# Altium footprint library PcbLib1.PcbLib: 12 footprints
Each footprint in its own frame and in the unit in brackets; x right, y up, seen from the top. Pads: shape width x height; smd on the part's side, far side on the other; paste and mask are expansions set on the pad; w line width, h text height; cw(c..) or ccw(c..) is an arc to the next point about the centre after c.
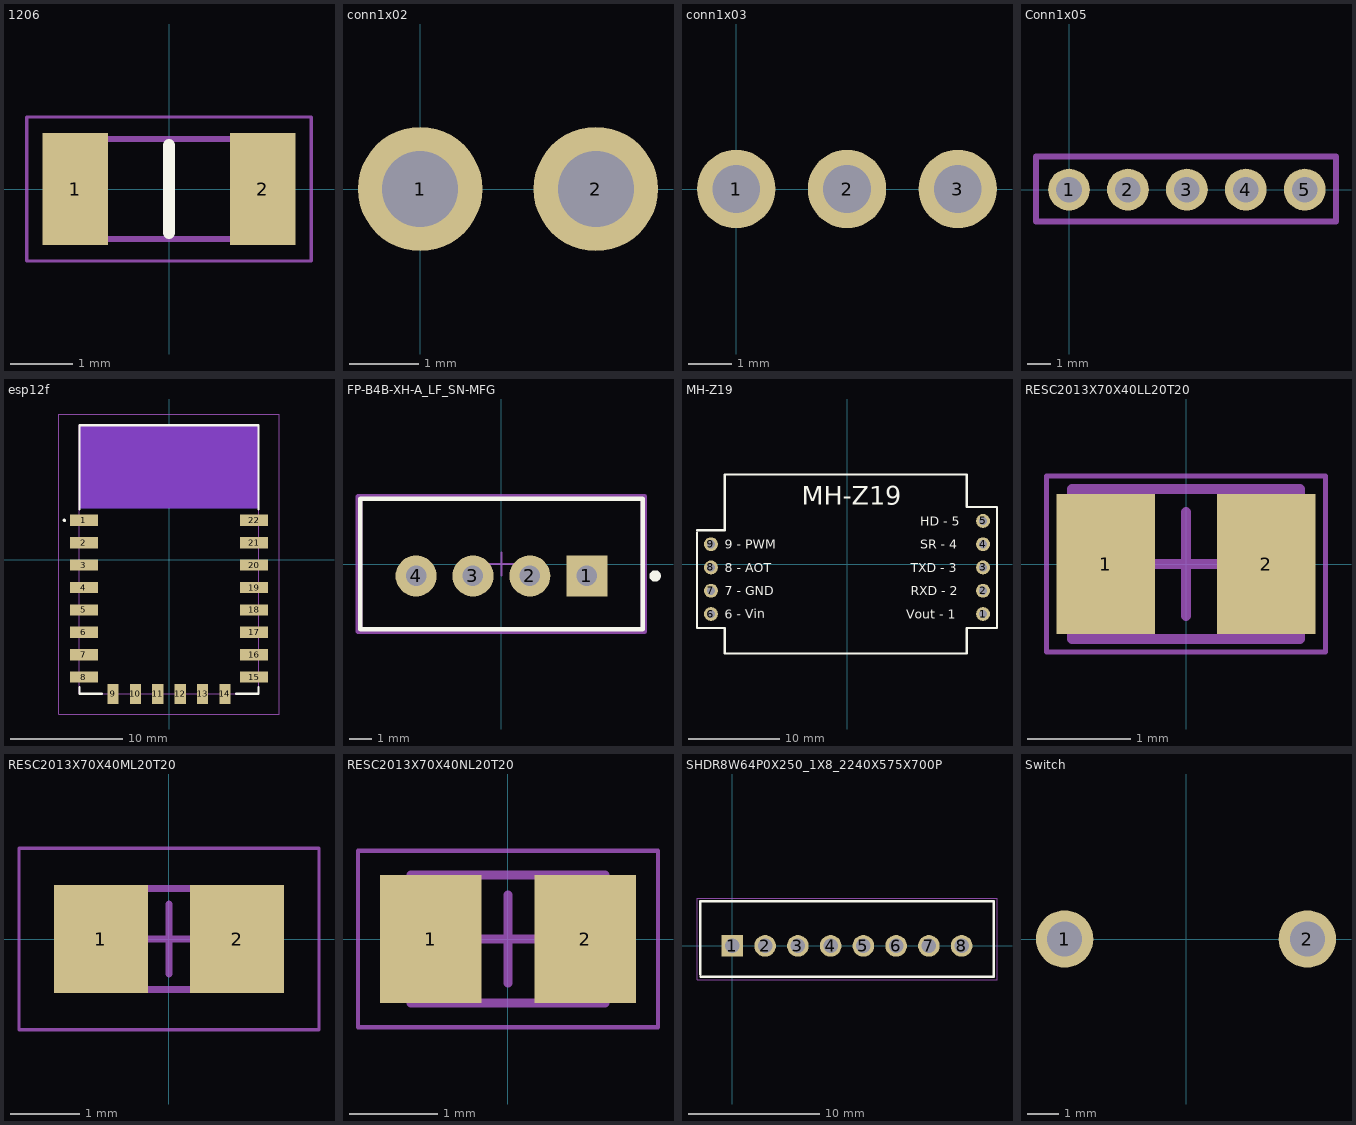
[diagram p0: the footprints below, top view; thin cyan lines are the x and y axes]

## 1206 [mm]
pads (2):
  rect 1.05x1.8 smd: 1(-1.5,0) 2(1.5,0)
Top Overlay:
  lines w0.2: 0,-0.7 0,0.7
Top 3D Body:
  lines w0.1: -1.575,-0.8 1.575,-0.8 1.575,0.8 -1.575,0.8 -1.575,-0.8
Top Courtyard:
  lines w0.05: -2.275,-1.15 2.275,-1.15 2.275,1.15 -2.275,1.15 -2.275,-1.15
3D body "CRCW12061K00JNEA.stp": height 0.55, standoff 0, extent -1.42,-0.74 1.78,0.86

## conn1x02 [mm]
pads (2):
  round 1.8 hole 1.1: 1(0,0) 2(2.54,0)
3D body "DS1021_black_1x02p_100mil_Type1_rev1.0.STEP": height 8.55, standoff -3, extent -1.27,-1.25 3.81,1.25

## conn1x03 [mm]
pads (3):
  round 1.8 hole 1.1: 1(0,0) 2(2.54,0) 3(5.08,0)
3D body "DS1021_black_1x03p_100mil_Type1_rev1.0.STEP": height 8.55, standoff -3, extent -1.27,-1.25 6.35,1.25

## Conn1x05 [mm]
pads (5):
  round 1.8 hole 1.1: 1(0,0) 2(2.54,0) 3(5.08,0) 4(7.62,0) 5(10.16,0)
Mechanical 1:
  lines w0.254: -1.422,-1.372 11.506,-1.372 11.506,1.422 -1.422,1.422 -1.422,-1.372
3D body "DS1021_black_1x05p_100mil_Type1_rev1.0.STEP": height 8.55, standoff -3, extent -1.27,-1.25 11.43,1.25

## esp12f [mm]
pads (22):
  rect 2.5x1 smd: 1(-7.6,3.5) 2(-7.6,1.5) 3(-7.6,-0.5) 4(-7.6,-2.5) 5(-7.6,-4.5) 6(-7.6,-6.5) 7(-7.6,-8.5) 8(-7.6,-10.5) 15(7.6,-10.5) 16(7.6,-8.5) 17(7.6,-6.5) 18(7.6,-4.5) 19(7.6,-2.5) 20(7.6,-0.5) 21(7.6,1.5) 22(7.6,3.5)
  rect 1x1.8 smd: 9(-5,-12) 10(-3,-12) 11(-1,-12) 12(1,-12) 13(3,-12) 14(5,-12)
Top Layer keep-out:
  rectangle: -8.001,4.554 7.991,12.065
Bottom Layer keep-out:
  rectangle: -8.001,4.572 8.001,11.938
Top Overlay:
  lines w0.2: -8,-11.4 -8,-12 -6,-12 ; -8,4.5 -8,12 8,12 8,4.5 ; 6,-12 8,-12 8,-11.4 ; -9.4,3.5 cw(c-9.35,3.5) -9.3,3.5 ; -9.4,3.5 ccw(c-9.35,3.5) -9.3,3.5 ; -9.4,3.5 cw(c-9.35,3.5) -9.3,3.5
Top 3D Body:
  lines w0.1: -8,-12 8,-12 8,12 -8,12 -8,-12
Top Courtyard:
  lines w0.1: -9.85,-13.8 -9.85,13 9.85,13 9.85,-13.8 -9.85,-13.8
3D body "esp-12f.stp": height 3.1, standoff 0, extent -8,-12 8,12

## FP-B4B-XH-A_LF_SN-MFG [mm]
pads (4):
  rect 1.8x1.8 hole 0.9 paste-2539.97 mask+0: 1(3.75,-0.525)
  round 1.8 hole 0.9 paste-2539.97 mask+0: 2(1.25,-0.525) 3(-1.25,-0.525) 4(-3.75,-0.525)
Top Overlay:
  circle w0.25: c6.75,-0.525 r0.125
  lines w0.2: -6.2,-2.875 -6.2,2.875 6.2,2.875 6.2,-2.875 -6.2,-2.875
Top Assembly:
  lines w0.2: -6.3,-2.975 -6.3,2.975 6.3,2.975 6.3,-2.975 -6.3,-2.975
  text ".Designator" at 0,0.188 h1
Top 3D Body:
  lines w0.2: -6.2,-2.875 -6.2,2.875 6.2,2.875 6.2,-2.875 -6.2,-2.875
Top Courtyard:
  lines w0.2: -6.3,-2.975 -6.3,2.975 6.3,2.975 6.3,-2.975 -6.3,-2.975
Top Component Center:
  lines w0.1: -0.5,0 0.5,0 ; 0,-0.5 0,0.5
3D body "Conn_JST_B4B-XH-A_LF_SN_eec.STEP": height 0.25, standoff 0, extent -6.3,-2.975 6.3,2.975

## MH-Z19 [mil]
pads (9):
  round 60 hole 36 paste-99999 mask+2: 1(585,-215) 2(585,-115) 3(585,-15) 4(585,85) 5(585,185) 6(-585,-215) 7(-585,-115) 8(-585,-15) 9(-585,85)
Top Overlay:
  lines w10: -645,135 -645,-275 -525,-275 -525,-385 515,-385 515,-275 645,-275 645,245 515,245 515,385 -525,385 -525,145 -645,145
  text "MH-Z19" at -195,255 h80
  text "9 - PWM" at -525,65.31 h39.37
  text "8 - AOT" at -525,-34.69 h39.37
  text "7 - GND" at -525,-134.69 h39.37
  text "6 - Vin" at -524.66,-234.68 h39.37
  text "HD - 5" at 315,165.31 h39.37
  text "SR - 4" at 315,65.31 h39.37
  text "TXD - 3" at 275,-34.69 h39.37
  text "RXD - 2" at 275,-134.69 h39.37
  text "Vout - 1" at 255,-234.69 h39.37
3D body "MH-Z19C.stp": height 436.96, standoff -236.27, extent -645.28,-405 650,370.59

## RESC2013X70X40LL20T20 [mm] "Chip Resistor, 2-Leads, Body 2.00x1.25mm, IPC High Density"
height 0.7
pads (2):
  rect 0.95x1.35 smd: 1(-0.775,0) 2(0.775,0)
Top 3D Body:
  lines w0.1: -1.1,-0.725 1.1,-0.725 1.1,0.725 -1.1,0.725 -1.1,-0.725
Top Courtyard:
  lines w0.05: -1.35,-0.85 1.35,-0.85 1.35,0.85 -1.35,0.85 -1.35,-0.85
  lines w0.1: -0.5,0 0.5,0 ; 0,-0.5 0,0.5
3D body: height 0.7, standoff 0, extent 0.7,-0.725 1.1,0.725
3D body: height 0.7, standoff 0, extent -1.1,-0.725 -0.7,0.725
3D body: height 0.7, standoff 0, extent -0.7,-0.725 0.7,0.725

## RESC2013X70X40ML20T20 [mm] "Chip Resistor, 2-Leads, Body 2.00x1.25mm, IPC Low Density"
height 0.7
pads (2):
  rect 1.35x1.55 smd: 1(-0.975,0) 2(0.975,0)
Top 3D Body:
  lines w0.1: -1.1,-0.725 -1.1,0.725 1.1,0.725 1.1,-0.725 -1.1,-0.725
Top Courtyard:
  lines w0.05: -2.15,-1.3 -2.15,1.3 2.15,1.3 2.15,-1.3 -2.15,-1.3
  lines w0.1: -0.5,0 0.5,0 ; 0,-0.5 0,0.5
3D body: height 0.7, standoff 0, extent -0.7,-0.725 0.7,0.725
3D body: height 0.7, standoff 0, extent -1.1,-0.725 -0.7,0.725
3D body: height 0.7, standoff 0, extent 0.7,-0.725 1.1,0.725

## RESC2013X70X40NL20T20 [mm] "Chip Resistor, 2-Leads, Body 2.2x1.35mm, IPC Medium Density"
height 0.7
pads (2):
  rect 1.15x1.45 smd: 1(-0.875,0) 2(0.875,0)
Top 3D Body:
  lines w0.1: -1.1,-0.725 -1.1,0.725 1.1,0.725 1.1,-0.725 -1.1,-0.725
Top Courtyard:
  lines w0.05: -1.7,-1 -1.7,1 1.7,1 1.7,-1 -1.7,-1
  lines w0.1: -0.5,0 0.5,0 ; 0,-0.5 0,0.5
3D body: height 0.7, standoff 0, extent -0.7,-0.725 0.7,0.725
3D body: height 0.7, standoff 0, extent -1.1,-0.725 -0.7,0.725
3D body: height 0.7, standoff 0, extent 0.7,-0.725 1.1,0.725

## SHDR8W64P0X250_1X8_2240X575X700P [mm]
pads (8):
  rect 1.65x1.65 hole 1.1: 1(0,0)
  round 1.65 hole 1.1: 2(2.5,0) 3(5,0) 4(7.5,0) 5(10,0) 6(12.5,0) 7(15,0) 8(17.5,0)
Top Overlay:
  lines w0.2: -2.45,-2.159 -2.45,3.4 19.95,3.4 19.95,-2.35 -2.413,-2.35
Top 3D Body:
  lines w0.1: -2.45,-2.35 19.95,-2.35 19.95,3.4 -2.45,3.4 -2.45,-2.35
Top Courtyard:
  lines w0.05: -2.7,-2.6 20.2,-2.6 20.2,3.65 -2.7,3.65 -2.7,-2.6
3D body "B8B-XH-A__LF__SN_.stp": height 7, standoff -3.4, extent -2.45,-2.875 19.95,2.875

## Switch [mm]
pads (2):
  round 1.8 hole 1.1: 1(-3.81,0) 2(3.81,0)
3D body "A06-D1-4.3.step": height 5.9, standoff -1.6, extent -3.841,-1.753 3.994,1.747